# Altium footprint library Electromechanical_Footprints.PcbLib: 1 footprints
Each footprint in its own frame and in the unit in brackets; x right, y up, seen from the top. Pads: shape width x height; smd on the part's side, far side on the other; paste and mask are expansions set on the pad; w line width, h text height; cw(c..) or ccw(c..) is an arc to the next point about the centre after c.
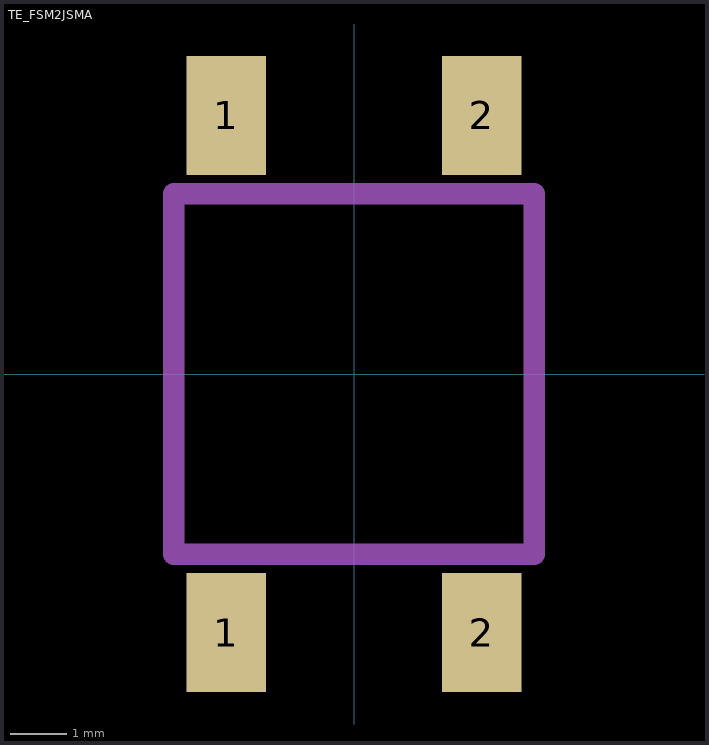
[diagram p0: the footprint, top view; thin cyan lines are the x and y axes]

## TE_FSM2JSMA [mm] "Footprint for TE Micro miniarture pushbutton switch"
pads (4):
  rect 1.4x2.1 smd: 1(-2.25,-4.55) 1(-2.25,4.55) 2(2.25,-4.55) 2(2.25,4.55)
Mechanical 13:
  lines w0.381: -3.175,-3.175 -3.175,3.175 3.175,3.175 3.175,-3.175 -3.175,-3.175